# Altium footprint library USB_MICRO.PcbLib: 1 footprints
Each footprint in its own frame and in the unit in brackets; x right, y up, seen from the top. Pads: shape width x height; smd on the part's side, far side on the other; paste and mask are expansions set on the pad; w line width, h text height; cw(c..) or ccw(c..) is an arc to the next point about the centre after c.
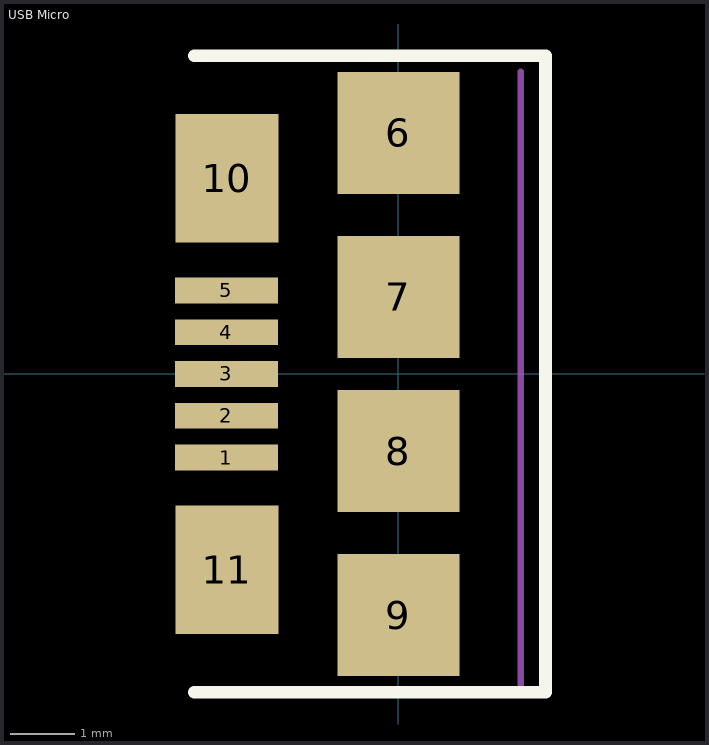
[diagram p0: the footprint, top view; thin cyan lines are the x and y axes]

## USB Micro [mm]
height 3.9
pads (11):
  rect 1.6x0.4 smd: 1(-2.675,-1.3) 2(-2.675,-0.65) 3(-2.675,0) 4(-2.675,0.65) 5(-2.675,1.3)
  rect 1.9x1.9 smd: 6(0,3.75) 7(0,1.2) 8(0,-1.2) 9(0,-3.75)
  rect 1.6x2 smd: 10(-2.667,3.048) 11(-2.667,-3.048)
Top Overlay:
  lines w0.2: -3.175,-4.95 2.286,-4.95 2.286,4.95 -3.175,4.95
Mechanical 1:
  lines w0.1: 1.905,-4.826 1.905,4.699
  text "PCB Edge" at 2.413,-4.699 h0.25
3D body: height 2.77, standoff -0.17, extent -3.556,-4.75 2.384,4.75